# Altium footprint library rlc-chip.PcbLib: 57 footprints (part 3 of 4)
Each footprint in its own frame and in the unit in brackets; x right, y up, seen from the top. Pads: shape width x height; smd on the part's side, far side on the other; paste and mask are expansions set on the pad; w line width, h text height; cw(c..) or ccw(c..) is an arc to the next point about the centre after c.
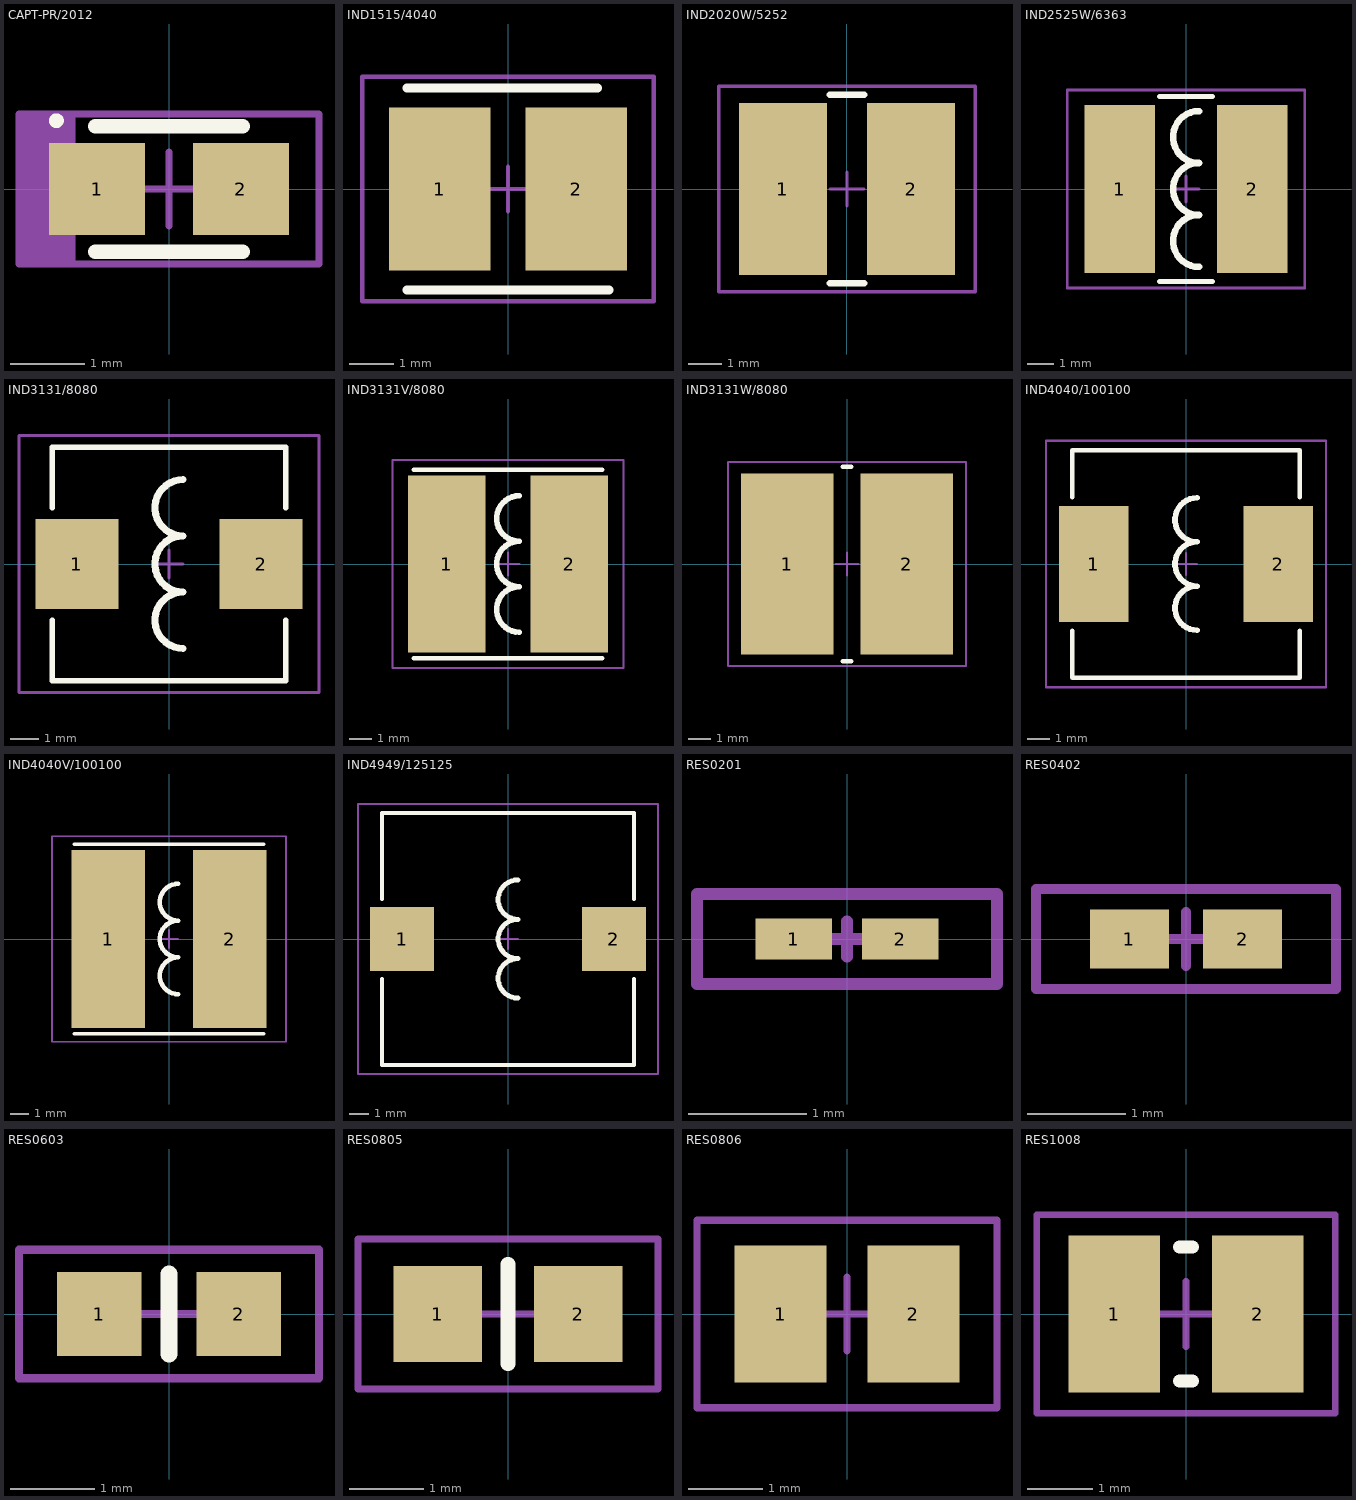
[diagram p2: the footprints below, top view; thin cyan lines are the x and y axes]

## CAPT-PR/2012 [mm] "Molded Capacitor, 2-Leads, Body 2,05x1,30mm, IPC Medium Density"
height 3.4
pads (2):
  rect 1.3x1.25 smd: 1(-0.975,0) 2(0.975,0)
Top Overlay:
  circle w0.1: c-1.525,0.925 r0.05
  lines w0.2: -1,-0.85 1,-0.85 ; -1,0.85 1,0.85
Mechanical 13:
  rectangle: -2.032,-1.016 -1.27,1.016
  lines w0.1: -2.032,-1.016 2.032,-1.016 2.032,1.016 -2.032,1.016 -2.032,-1.016
  text ".Designator" at -1.11,-0.4 h0.8
Mechanical 15:
  lines w0.05: -2.032,-1.016 2.032,-1.016 2.032,1.016 -2.032,1.016 -2.032,-1.016
  lines w0.1: -0.5,0 0.5,0 ; 0,-0.5 0,0.5
3D body: height 1.2, standoff 0, extent -0.3,-0.7 1.125,0.7
3D body: height 1.2, standoff 0, extent -1.125,-0.7 -0.3,0.7

## IND1515/4040 [mm] "Precision Wire Wound Inductor, 2-Leads, Body 4,00x4,00mm, IPC Medium Density"
height 4.5
pads (2):
  rect 2.3x3.7 smd: 1(-1.55,0) 2(1.55,0)
Top Overlay:
  lines w0.2: -2.286,-2.286 2.286,-2.286 ; -2.286,2.286 2.032,2.286
Mechanical 13:
  lines w0.1: -3.302,-2.54 -3.302,2.54 3.302,2.54 3.302,-2.54 -3.302,-2.54
  text ".Designator" at -2.68,-0.8 h1.6
Mechanical 15:
  lines w0.05: -3.302,-2.54 -3.302,2.54 3.302,2.54 3.302,-2.54 -3.302,-2.54
  lines w0.1: -0.5,0 0.5,0 ; 0,-0.5 0,0.5
3D body: height 4.5, standoff 0, extent -2.1,-2.1 2.1,2.1

## IND2020W/5252 [mm] "Precision Wire Wound Inductor, 2-Leads, Body 5,10x5,10mm, IPC Medium Density"
height 3
pads (2):
  rect 2.6x5.1 smd: 1(-1.9,0) 2(1.9,0)
Top Overlay:
  lines w0.2: -0.508,-2.794 0.508,-2.794 ; -0.508,2.794 0.508,2.794
Mechanical 13:
  lines w0.1: -3.81,-3.048 3.81,-3.048 3.81,3.048 -3.81,3.048 -3.81,-3.048
  text ".Designator" at -2.65,-0.77 h1.6
Mechanical 15:
  lines w0.05: -3.81,-3.048 3.81,-3.048 3.81,3.048 -3.81,3.048 -3.81,-3.048
  lines w0.1: -0.5,0 0.5,0 ; 0,-0.5 0,0.5
3D body: height 3, standoff 0, extent -2.6,-2.6 2.6,2.6

## IND2525W/6363 [mm] "Precision Wire Wound Inductor, 2-Leads, Body 6,30x6,30mm, IPC Medium Density"
height 5
pads (2):
  rect 2.7x6.45 smd: 1(-2.55,0) 2(2.55,0)
Top Overlay:
  lines w0.2: -1.016,-3.556 1.016,-3.556 ; -1.016,3.556 1.016,3.556
  lines w0.254: 0.5,-3 cw(c0.5,-2) 0.5,-1 cw(c0.5,0) 0.5,1 cw(c0.5,2) 0.5,3
Mechanical 13:
  lines w0.1: -4.572,-3.81 -4.572,3.81 4.572,3.81 4.572,-3.81 -4.572,-3.81
  text ".Designator" at -3.302,-1.016 h2
Mechanical 15:
  lines w0.05: -4.572,-3.81 -4.572,3.81 4.572,3.81 4.572,-3.81 -4.572,-3.81
  lines w0.1: -0.5,0 0.5,0 ; 0,-0.5 0,0.5
3D body: height 5, standoff 0, extent -3.3,-3.3 3.3,3.3

## IND3131/8080 [mm] "Precision Wire Wound Inductor, 2-Leads, Body 8,15x8,15mm, IPC Medium Density"
height 4.5
pads (2):
  rect 2.95x3.2 smd: 1(-3.275,0) 2(3.275,0)
Top Overlay:
  lines w0.2: -4.15,-2 -4.15,-4.15 4.15,-4.15 4.15,-2 ; -4.15,2 -4.15,4.15 4.15,4.15 4.15,2
  lines w0.254: 0.5,-3 cw(c0.5,-2) 0.5,-1 cw(c0.5,0) 0.5,1 cw(c0.5,2) 0.5,3
Mechanical 13:
  lines w0.1: -5.334,-4.572 5.334,-4.572 5.334,4.572 -5.334,4.572 -5.334,-4.572
  text ".Designator" at -3.302,-1.016 h2
Mechanical 15:
  lines w0.05: -5.334,-4.572 5.334,-4.572 5.334,4.572 -5.334,4.572 -5.334,-4.572
  lines w0.1: -0.5,0 0.5,0 ; 0,-0.5 0,0.5
3D body: height 4.5, standoff 0, extent -4.15,-4.15 4.15,4.15

## IND3131V/8080 [mm] "Precision Wire Wound Inductor, 2-Leads, Body 8,15x8,15mm, IPC Medium Density"
height 4.5
pads (2):
  rect 3.4x7.8 smd: 1(-2.7,0) 2(2.7,0)
Top Overlay:
  lines w0.2: -4.15,-4.15 4.15,-4.15 ; -4.15,4.15 4.15,4.15
  lines w0.254: 0.5,-3 cw(c0.5,-2) 0.5,-1 cw(c0.5,0) 0.5,1 cw(c0.5,2) 0.5,3
Mechanical 13:
  lines w0.1: -5.08,-4.572 5.08,-4.572 5.08,4.572 -5.08,4.572 -5.08,-4.572
  text ".Designator" at -3.302,-1.016 h2
Mechanical 15:
  lines w0.05: -5.08,-4.572 5.08,-4.572 5.08,4.572 -5.08,4.572 -5.08,-4.572
  lines w0.1: -0.5,0 0.5,0 ; 0,-0.5 0,0.5
3D body: height 4.5, standoff 0, extent -4.15,-4.15 4.15,4.15

## IND3131W/8080 [mm] "Precision Wire Wound Inductor, 2-Leads, Body 8,15x8,15mm, IPC Medium Density"
height 4.5
pads (2):
  rect 4.15x8.1 smd: 1(-2.675,0) 2(2.675,0)
Top Overlay:
  lines w0.2: -0.2,-4.35 0.2,-4.35 ; -0.2,4.35 0.2,4.35
Mechanical 13:
  lines w0.1: -5.334,-4.572 -5.334,4.572 5.334,4.572 5.334,-4.572 -5.334,-4.572
  text ".Designator" at -3.302,-1.016 h2
Mechanical 15:
  lines w0.05: -5.334,-4.572 -5.334,4.572 5.334,4.572 5.334,-4.572 -5.334,-4.572
  lines w0.1: -0.5,0 0.5,0 ; 0,-0.5 0,0.5
3D body: height 4.5, standoff 0, extent -4.15,-4.15 4.15,4.15

## IND4040/100100 [mm] "Precision Wire Wound Inductor, 2-Leads, Body 10,15x10,15mm, IPC Medium Density"
height 5
pads (2):
  rect 3.15x5.25 smd: 1(-4.175,0) 2(4.175,0)
Top Overlay:
  lines w0.2: -5.15,-3.025 -5.15,-5.15 5.15,-5.15 5.15,-3.025 ; -5.15,3.025 -5.15,5.15 5.15,5.15 5.15,3.025
  lines w0.254: 0.5,-3 cw(c0.5,-2) 0.5,-1 cw(c0.5,0) 0.5,1 cw(c0.5,2) 0.5,3
Mechanical 13:
  lines w0.1: -6.35,-5.588 6.35,-5.588 6.35,5.588 -6.35,5.588 -6.35,-5.588
  text ".Designator" at -4.36,-1.27 h2.6
Mechanical 15:
  lines w0.05: -6.35,-5.588 6.35,-5.588 6.35,5.588 -6.35,5.588 -6.35,-5.588
  lines w0.1: -0.5,0 0.5,0 ; 0,-0.5 0,0.5
3D body: height 5, standoff 0, extent -5.15,-5.15 5.15,5.15

## IND4040V/100100 [mm] "Precision Wire Wound Inductor, 2-Leads, Body 10,15x10,15mm, IPC Medium Density"
height 5
pads (2):
  rect 4x9.7 smd: 1(-3.302,0) 2(3.302,0)
Top Overlay:
  lines w0.2: -5.15,-5.15 5.15,-5.15 ; -5.15,5.15 5.15,5.15
  lines w0.254: 0.5,-3 cw(c0.5,-2) 0.5,-1 cw(c0.5,0) 0.5,1 cw(c0.5,2) 0.5,3
Mechanical 13:
  lines w0.1: -6.35,-5.588 6.35,-5.588 6.35,5.588 -6.35,5.588 -6.35,-5.588
  text ".Designator" at -4.36,-1.27 h2.6
Mechanical 15:
  lines w0.05: -6.35,-5.588 6.35,-5.588 6.35,5.588 -6.35,5.588 -6.35,-5.588
  lines w0.1: -0.5,0 0.5,0 ; 0,-0.5 0,0.5
3D body: height 5, standoff 0, extent -5.15,-5.15 5.15,5.15

## IND4949/125125 [mm] "Precision Wire Wound Inductor, 2-Leads, Body 12,65x12,65mm, IPC Medium Density"
height 6.8
pads (2):
  rect 3.25x3.25 smd: 1(-5.375,0) 2(5.375,0)
Top Overlay:
  lines w0.2: -6.4,-2.025 -6.4,-6.4 6.4,-6.4 6.4,-2.025 ; -6.4,2.025 -6.4,6.4 6.4,6.4 6.4,2.025
  lines w0.254: 0.5,-3 cw(c0.5,-2) 0.5,-1 cw(c0.5,0) 0.5,1 cw(c0.5,2) 0.5,3
Mechanical 13:
  lines w0.1: -7.62,-6.858 7.62,-6.858 7.62,6.858 -7.62,6.858 -7.62,-6.858
  text ".Designator" at -4.34,-1.25 h2.6
Mechanical 15:
  lines w0.05: -7.62,-6.858 7.62,-6.858 7.62,6.858 -7.62,6.858 -7.62,-6.858
  lines w0.1: -0.5,0 0.5,0 ; 0,-0.5 0,0.5
3D body: height 6.8, standoff 0, extent -6.4,-6.4 6.4,6.4

## RES0201 [mm] "Chip Resistor, 2-Leads, Body 0,60x0,30mm, IPC Medium Density"
height 0.26
pads (2):
  rect 0.65x0.35 smd: 1(-0.45,0) 2(0.45,0)
Mechanical 13:
  lines w0.1: -1.27,-0.381 -1.27,0.381 1.27,0.381 1.27,-0.381 -1.27,-0.381
  text ".Designator" at -0.84,-0.25 h0.5
Mechanical 15:
  lines w0.05: -1.27,-0.381 -1.27,0.381 1.27,0.381 1.27,-0.381 -1.27,-0.381
  lines w0.1: -0.15,0 0.15,0 ; 0,-0.15 0,0.15
3D body: height 0.26, standoff 0, extent -0.165,-0.15 0.165,0.15
3D body: height 0.26, standoff 0, extent -0.315,-0.15 -0.165,0.15
3D body: height 0.26, standoff 0, extent 0.165,-0.15 0.315,0.15

## RES0402 [mm] "Chip Resistor, 2-Leads, Body 1,00x0,50mm, IPC Medium Density"
height 0.4
pads (2):
  rect 0.8x0.6 smd: 1(-0.575,0) 2(0.575,0)
Mechanical 13:
  lines w0.1: -1.524,-0.508 1.524,-0.508 1.524,0.508 -1.524,0.508 -1.524,-0.508
  text ".Designator" at -1.05,-0.29 h0.6
Mechanical 15:
  lines w0.05: -1.524,-0.508 1.524,-0.508 1.524,0.508 -1.524,0.508 -1.524,-0.508
  lines w0.1: -0.275,0 0.275,0 ; 0,-0.275 0,0.275
3D body: height 0.4, standoff 0, extent 0.275,-0.275 0.525,0.275
3D body: height 0.4, standoff 0, extent -0.525,-0.275 -0.275,0.275
3D body: height 0.4, standoff 0, extent -0.275,-0.275 0.275,0.275

## RES0603 [mm] "Chip Resistor, 2-Leads, Body 1,75x0,95mm, IPC Medium Density"
height 0.55
pads (2):
  rect 1x1 smd: 1(-0.825,0) 2(0.825,0)
Top Overlay:
  lines w0.2: 0,-0.475 0,0.475
Mechanical 13:
  lines w0.1: -1.778,-0.762 1.778,-0.762 1.778,0.762 -1.778,0.762 -1.778,-0.762
  text ".Designator" at -1.37,-0.38 h0.8
Mechanical 15:
  lines w0.05: -1.778,-0.762 1.778,-0.762 1.778,0.762 -1.778,0.762 -1.778,-0.762
  lines w0.1: -0.475,0 0.475,0 ; 0,-0.475 0,0.475
3D body: height 0.55, standoff 0, extent 0.575,-0.475 0.875,0.475
3D body: height 0.55, standoff 0, extent -0.875,-0.475 -0.575,0.475
3D body: height 0.55, standoff 0, extent -0.575,-0.475 0.575,0.475

## RES0805 [mm] "Chip Resistor, 2-Leads, Body 2,00x1,25mm, IPC Medium Density"
height 0.7
pads (2):
  rect 1.2x1.3 smd: 1(-0.95,0) 2(0.95,0)
Top Overlay:
  lines w0.2: 0,-0.675 0,0.675
Mechanical 13:
  lines w0.1: -2.032,-1.016 -2.032,1.016 2.032,1.016 2.032,-1.016 -2.032,-1.016
  text ".Designator" at -1.54,-0.42 h0.9
Mechanical 15:
  lines w0.05: -2.032,-1.016 -2.032,1.016 2.032,1.016 2.032,-1.016 -2.032,-1.016
  lines w0.1: -0.5,0 0.5,0 ; 0,-0.5 0,0.5
3D body: height 0.7, standoff 0, extent -0.7,-0.675 0.7,0.675
3D body: height 0.7, standoff 0, extent -1.1,-0.675 -0.7,0.675
3D body: height 0.7, standoff 0, extent 0.7,-0.675 1.1,0.675

## RES0806 [mm] "Chip Resistor, 2-Leads, Body 2,00x1,60mm, IPC Medium Density"
height 0.7
pads (2):
  rect 1.25x1.85 smd: 1(-0.9,0) 2(0.9,0)
Mechanical 13:
  lines w0.1: -2.032,-1.27 -2.032,1.27 2.032,1.27 2.032,-1.27 -2.032,-1.27
  text ".Designator" at -1.51,-0.45 h0.9
Mechanical 15:
  lines w0.05: -2.032,-1.27 -2.032,1.27 2.032,1.27 2.032,-1.27 -2.032,-1.27
  lines w0.1: -0.5,0 0.5,0 ; 0,-0.5 0,0.5
3D body: height 0.7, standoff 0, extent -0.575,-0.875 0.575,0.875
3D body: height 0.7, standoff 0, extent -1.075,-0.875 -0.575,0.875
3D body: height 0.7, standoff 0, extent 0.575,-0.875 1.075,0.875

## RES1008 [mm] "Chip Resistor, 2-Leads, Body 2,50x2,00mm, IPC Medium Density"
height 0.55
pads (2):
  rect 1.4x2.4 smd: 1(-1.1,0) 2(1.1,0)
Top Overlay:
  lines w0.2: -0.1,-1.025 0.1,-1.025 ; -0.1,1.025 0.1,1.025
Mechanical 13:
  lines w0.1: -2.286,-1.524 -2.286,1.524 2.286,1.524 2.286,-1.524 -2.286,-1.524
  text ".Designator" at -1.67,-0.49 h1
Mechanical 15:
  lines w0.05: -2.286,-1.524 -2.286,1.524 2.286,1.524 2.286,-1.524 -2.286,-1.524
  lines w0.1: -0.5,0 0.5,0 ; 0,-0.5 0,0.5
3D body: height 0.55, standoff 0, extent -0.75,-1.1 0.75,1.1
3D body: height 0.55, standoff 0, extent -1.35,-1.1 -0.75,1.1
3D body: height 0.55, standoff 0, extent 0.75,-1.1 1.35,1.1